# Altium integrated library TI Data Converters Analog to Digital Converter.IntLib: 2197 symbols (part 144 of 168)
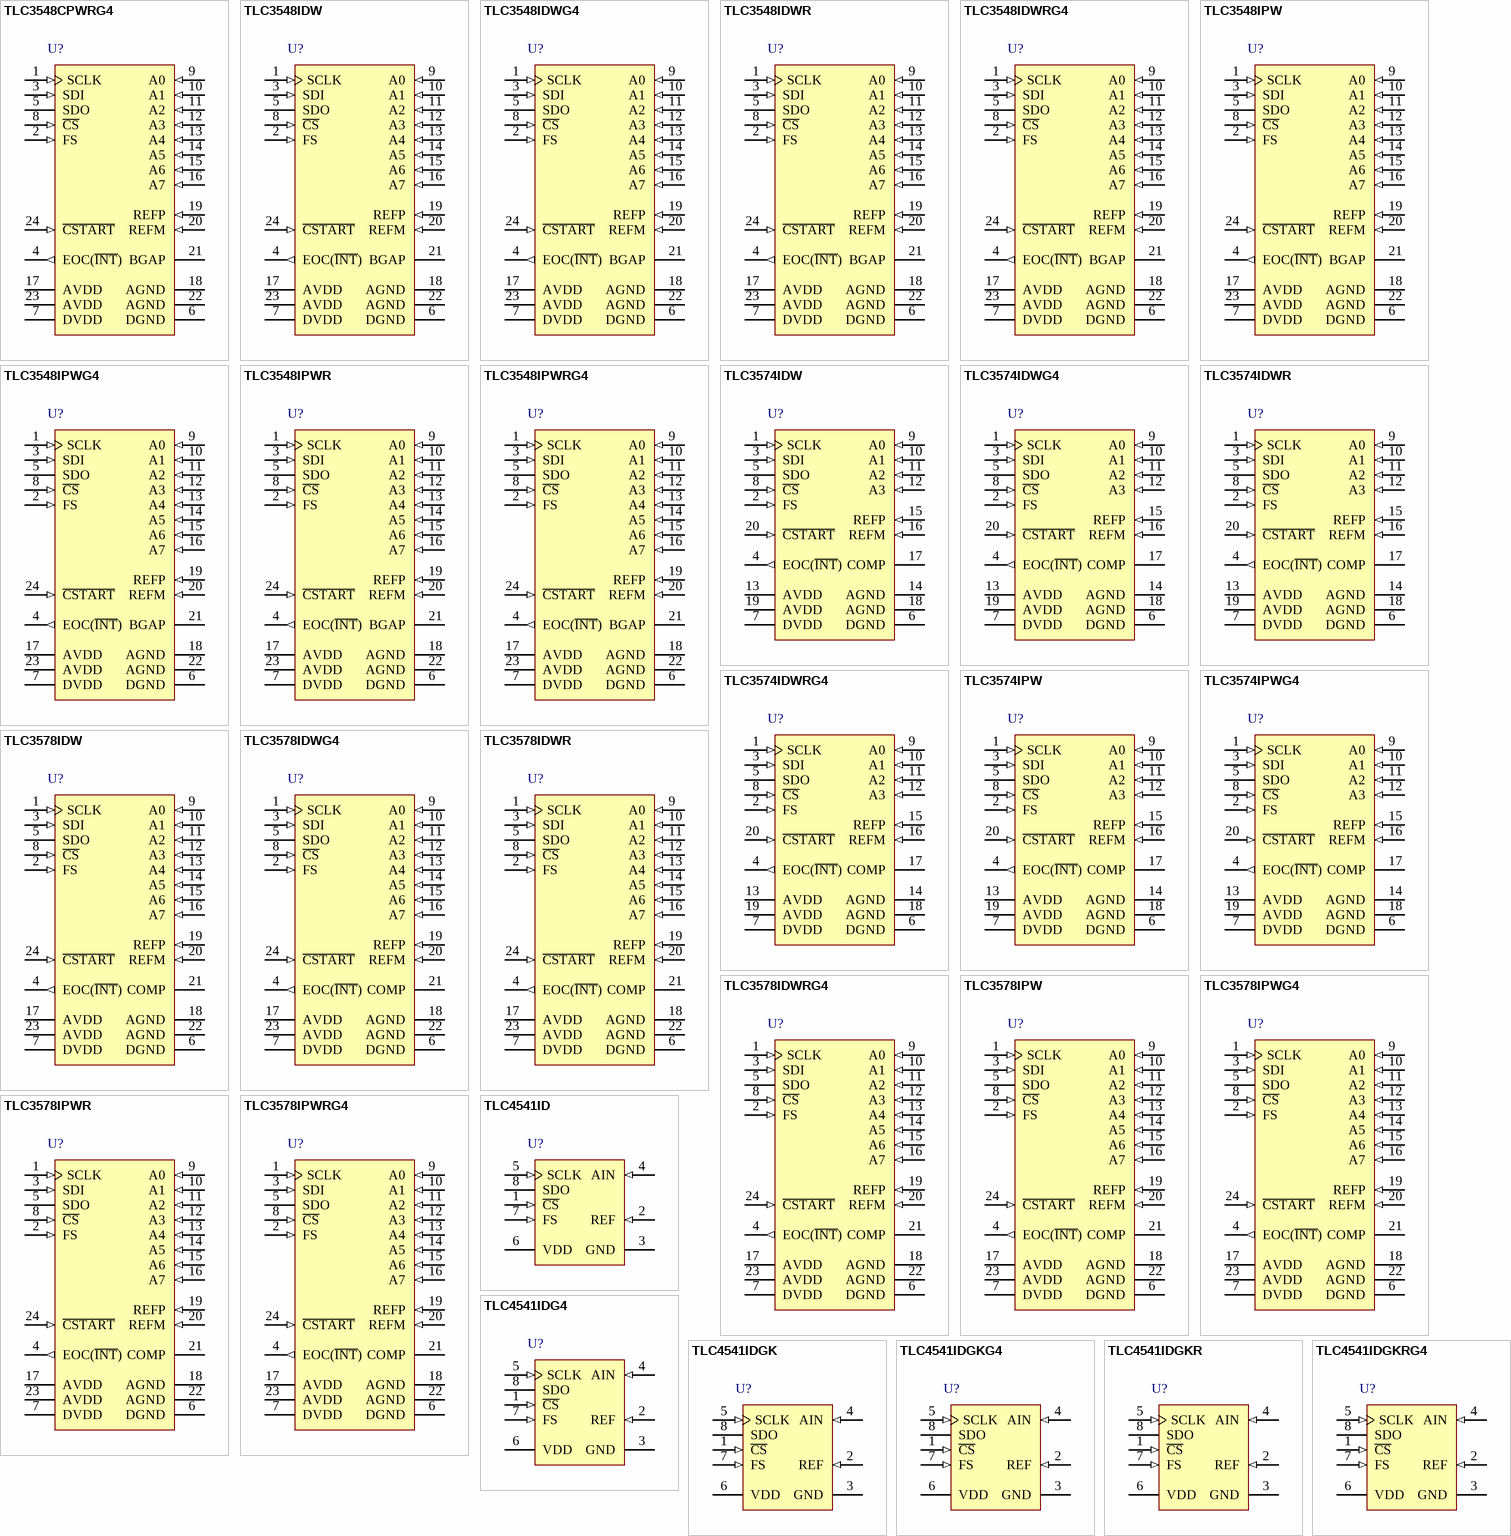
[diagram p269: symbols TLC3548CPWRG4 to TLC4541IDGKRG4]

## TLC3578IPWRG4
designator U?
Serial Out, Low Power with Built-In Conversion Clock and 8 x FIFO, 8 Channel, -40 to 85 degC, 24-pin SOP (PW24), Green (RoHS & no Sb/Br); Manufacturer: Texas Instruments; PartNumber: TLC3578IPWRG4; # Input Channels: 8; Analog Voltage AV/DD(Max)(V): 5.5; Analog Voltage AV/DD(Min)(V): 4.75; Architecture: SAR; Digital Supply(Min)(V): 2.7; ENOB(Bits): 12.8; INL(Max)(+/-LSB): 1.5; Interface: Serial SPI; Resolution(Bits): 14; Sample Rate (max)(SPS): 200k; SFDR(dB): 84; SINAD(dB): 79; SNR(dB): 80; SubFamily: Precision ADC (<=10MSPS); DatasheetVersion: SLAS262C; PackageVersion: 4040064-6/G, 02/2011; PackageReference: PW24; PackageDescription: 24-Pin Plastic Small Outline, Body 7.8 x 4.4 mm, Pitch 0.65 mm; Supplier 1: Digi-Key; Supplier Part Number 1: TLC0834IDR-ND; Supplier 2: Mouser; Supplier Part Number 2: 595-TLC0834IDR; Digital Supply(Max)(V): 5.5; Eco-Plan: Green (RoHS & no Sb/Br); Mounting Technology: Surface Mount; Code_JEDEC: MO-153; ComponentLink1Description: Manufacturer URL; ComponentLink1URL: http://www.ti.com/; ComponentLink2Description: Datasheet; ComponentLink2URL: http://www.ti.com/general/docs/lit/getliterature.tsp?genericPartNumber=TLC3578&fileType=pdf; ComponentLink3Description: Package Specification; ComponentLink3URL: http://www.ti.com/litv/pdf/mpds363
footprint TI-PW24_N (SOP, 24-Leads, Body 7.8x4.4mm, Pitch 0.65mm, IPC Medium Density)
footprint TI-PW24_L (SOP, 24-Leads, Body 7.8x4.4mm, Pitch 0.65mm, IPC High Density)
footprint TI-PW24_M (SOP, 24-Leads, Body 7.8x4.4mm, Pitch 0.65mm, IPC Low Density)
pins: 1 SCLK (in) "Serial clock input from the host processor to clock in the input from SDI and clock out the output via SDO. It can also be used as the conversion clock source when the external conversion clock is selected (see Table 2). (See Datasheet)", 2 FS (in) "Frame sync input from DSP. The rising edge of FS indicates the start of a serial data frame being transferred (coming into or being sent out of the device). If FS is low at the falling edge of C\S\, the rising edge of FS (See Datasheet)", 3 SDI (in) "Serial data input. The first 4 MSBs, ID[15:12], are decoded as one 4-bit command. All trailing bits, except for the WRITE CFR command, are filled with zeros. The WRITE CFR command requires additional 12-bit data. The MSB of (See Datasheet)", 4 EOC(~{INT}) (out) "End of conversion (EOC) or interrupt to host processor (I\N\T\) EOC: used in conversion mode 00 only. EOC goes from high to low at the end of the sampling and remains low until the conversion is complete and data is ready. (See Datasheet)", 5 SDO (hiz) "The 3-state serial output for the A/D conversion result. All data bits are shifted out through SDO. SDO is in the high-impedance state when C\S\ is high. SDO is released after a C\S\ falling edge. The output format is MSB (See Datasheet)", 6 DGND (power) "Digital ground return for the internal circuitry", 7 DVDD (power) "Digital supply voltage", 8 ~{CS} (in) "Chip select. When C\S\ is high, SDO is in high-impedance state, SDI is ignored, and SCLK is disabled to clock data, but works as conversion clock source if programmed. The falling edge of C\S\ input resets the internal 4-bit (See Datasheet)", 9 A0 (in) "Analog signal inputs. Analog input signals applied to these terminals are internally multiplexed. The driving source impedance should be less than or equal to 25 ohm for normal sampling. For larger source impedance, use the (See Datasheet)", 10 A1 (in) "Analog signal inputs. Analog input signals applied to these terminals are internally multiplexed. The driving source impedance should be less than or equal to 25 ohm for normal sampling. For larger source impedance, use the (See Datasheet)", 11 A2 (in) "Analog signal inputs. Analog input signals applied to these terminals are internally multiplexed. The driving source impedance should be less than or equal to 25 ohm for normal sampling. For larger source impedance, use the (See Datasheet)", 12 A3 (in) "Analog signal inputs. Analog input signals applied to these terminals are internally multiplexed. The driving source impedance should be less than or equal to 25 ohm for normal sampling. For larger source impedance, use the (See Datasheet)", 13 A4 (in) "Analog signal inputs. Analog input signals applied to these terminals are internally multiplexed. The driving source impedance should be less than or equal to 25 ohm for normal sampling. For larger source impedance, use the (See Datasheet)", 14 A5 (in) "Analog signal inputs. Analog input signals applied to these terminals are internally multiplexed. The driving source impedance should be less than or equal to 25 ohm for normal sampling. For larger source impedance, use the (See Datasheet)", 15 A6 (in) "Analog signal inputs. Analog input signals applied to these terminals are internally multiplexed. The driving source impedance should be less than or equal to 25 ohm for normal sampling. For larger source impedance, use the (See Datasheet)", 16 A7 (in) "Analog signal inputs. Analog input signals applied to these terminals are internally multiplexed. The driving source impedance should be less than or equal to 25 ohm for normal sampling. For larger source impedance, use the (See Datasheet)", 17 AVDD (power) "Analog supply voltage", 18 AGND (power) "Analog ground return for the internal circuitry. Unless otherwise noted, all analog voltage measurements are with respect to AGND.", 19 REFP (in) "External positive reference input. The range of maximum input voltage is determined by the difference between the voltage applied to this terminal and to the REFM terminal. Always install decoupling capacitors (10 uF in (See Datasheet)", 20 REFM (in) "External low reference input. Connect REFM to AGND.", 21 COMP "Internal compensation pin. Install compensation capacitors 0.1 uF between this pin and AGND.", 22 AGND (power) "Analog ground return for the internal circuitry. Unless otherwise noted, all analog voltage measurements are with respect to AGND.", 23 AVDD (power) "Analog supply voltage", 24 ~{CSTART} (in) "External sampling trigger signal, which initiates the sampling from a selected analog input channel when the device works in extended sampling mode (asynchronous sampling). A high-to-low transition starts the sampling of the (See Datasheet)"

## TLC4541ID
designator U?
16-Bit 200 kSPS ADC Serial Out, Auto Power Down, Single-Ended Input, -40 to 85 degC, 8-pin SOIC (D8), Green (RoHS & no Sb/Br); Manufacturer: Texas Instruments; PartNumber: TLC4541ID; # Input Channels: 1; Analog Voltage AV/DD(Max)(V): 5.5; Analog Voltage AV/DD(Min)(V): 4.5; Architecture: SAR; ENOB(Bits): 13.7; INL(Max)(+/-LSB): 2.5; Interface: Serial SPI; Resolution(Bits): 16; Sample Rate (max)(SPS): 200k; SFDR(dB): 95; SINAD(dB): 84.5; SNR(dB): 85; SubFamily: Precision ADC (<=10MSPS); DatasheetVersion: SLAS293; PackageVersion: 4040047-3/M, 06/2011; PackageReference: D8; PackageDescription: 8-Pin Plastic Small Outline, Body 4.9 x 3.9 mm, Pitch 1.27 mm; Supplier 1: Digi-Key; Supplier Part Number 1: TLC0834IDRG4-ND; Supplier 2: Mouser; Supplier Part Number 2: 595-TLC0834IDRG4; Digital Supply(Max)(V): 5.5; Digital Supply(Min)(V): 4.5; Eco-Plan: Green (RoHS & no Sb/Br); Mounting Technology: Surface Mount; Code_JEDEC: MS-012; ComponentLink1Description: Manufacturer URL; ComponentLink1URL: http://www.ti.com/; ComponentLink2Description: Datasheet; ComponentLink2URL: http://www.ti.com/general/docs/lit/getliterature.tsp?genericPartNumber=TLC4541&fileType=pdf; ComponentLink3Description: Package Specification; ComponentLink3URL: http://www.ti.com/litv/pdf/msoi002j
footprint TI-D8_N (SOIC, 8-Leads, Body 4.9x3.9mm, Pitch 1.27mm, IPC Medium Density)
footprint TI-D8_L (SOIC, 8-Leads, Body 4.9x3.9mm, Pitch 1.27mm, IPC High Density)
footprint TI-D8_M (SOIC, 8-Leads, Body 4.9x3.9mm, Pitch 1.27mm, IPC Low Density)
pins: 1 ~{CS} (in) "Chip select. A high-to-low transition on the C\S\ input removes SDO from a high-impedance state within a maximum delay time. If the TLC4541 is attached to a dedicated TMS320 DSP serial port using the FS input, C\S\ can be (See Datasheet)", 2 REF (in) "External voltage reference input", 3 GND (power) "Ground return for the internal circuitry. Unless otherwise noted, all voltage measurements are with respect to GND.", 4 AIN (in) "Analog input channel", 5 SCLK (in) "Serial clock. This terminal receives the serial SCLK from the host processor.", 6 VDD (power) "Positive supply voltage", 7 FS (in) "DSP frame sync input. Indication of a start of a serial data frame. A low-to-high transition removes SDO from the high-impedance state and the MSB is presented. Tie this pin to VDD if not used.", 8 SDO (hiz) "The 3-state serial data output for the A/D conversion result. SDO is kept in the high-impedance state when C\S\ is high. The output format is MSB first. Remaining data bits are presented on the rirsing edge of SCLK. When FS (See Datasheet)"

## TLC4541IDG4
designator U?
16-Bit 200 kSPS ADC Serial Out, Auto Power Down, Single-Ended Input, -40 to 85 degC, 8-pin SOIC (D8), Green (RoHS & no Sb/Br); Manufacturer: Texas Instruments; PartNumber: TLC4541IDG4; # Input Channels: 1; Analog Voltage AV/DD(Max)(V): 5.5; Analog Voltage AV/DD(Min)(V): 4.5; Architecture: SAR; ENOB(Bits): 13.7; INL(Max)(+/-LSB): 2.5; Interface: Serial SPI; Resolution(Bits): 16; Sample Rate (max)(SPS): 200k; SFDR(dB): 95; SINAD(dB): 84.5; SNR(dB): 85; SubFamily: Precision ADC (<=10MSPS); DatasheetVersion: SLAS293; PackageVersion: 4040047-3/M, 06/2011; PackageReference: D8; PackageDescription: 8-Pin Plastic Small Outline, Body 4.9 x 3.9 mm, Pitch 1.27 mm; Supplier 1: Digi-Key; Supplier Part Number 1: 296-2864-5-ND; Supplier 2: Mouser; Supplier Part Number 2: 595-TLC0834IN; Digital Supply(Max)(V): 5.5; Digital Supply(Min)(V): 4.5; Eco-Plan: Green (RoHS & no Sb/Br); Mounting Technology: Surface Mount; Code_JEDEC: MS-012; ComponentLink1Description: Manufacturer URL; ComponentLink1URL: http://www.ti.com/; ComponentLink2Description: Datasheet; ComponentLink2URL: http://www.ti.com/general/docs/lit/getliterature.tsp?genericPartNumber=TLC4541&fileType=pdf; ComponentLink3Description: Package Specification; ComponentLink3URL: http://www.ti.com/litv/pdf/msoi002j
footprint TI-D8_N (SOIC, 8-Leads, Body 4.9x3.9mm, Pitch 1.27mm, IPC Medium Density)
footprint TI-D8_L (SOIC, 8-Leads, Body 4.9x3.9mm, Pitch 1.27mm, IPC High Density)
footprint TI-D8_M (SOIC, 8-Leads, Body 4.9x3.9mm, Pitch 1.27mm, IPC Low Density)
pins: 1 ~{CS} (in) "Chip select. A high-to-low transition on the C\S\ input removes SDO from a high-impedance state within a maximum delay time. If the TLC4541 is attached to a dedicated TMS320 DSP serial port using the FS input, C\S\ can be (See Datasheet)", 2 REF (in) "External voltage reference input", 3 GND (power) "Ground return for the internal circuitry. Unless otherwise noted, all voltage measurements are with respect to GND.", 4 AIN (in) "Analog input channel", 5 SCLK (in) "Serial clock. This terminal receives the serial SCLK from the host processor.", 6 VDD (power) "Positive supply voltage", 7 FS (in) "DSP frame sync input. Indication of a start of a serial data frame. A low-to-high transition removes SDO from the high-impedance state and the MSB is presented. Tie this pin to VDD if not used.", 8 SDO (hiz) "The 3-state serial data output for the A/D conversion result. SDO is kept in the high-impedance state when C\S\ is high. The output format is MSB first. Remaining data bits are presented on the rirsing edge of SCLK. When FS (See Datasheet)"

## TLC4541IDGK
designator U?
16-Bit 200 kSPS ADC Serial Out, Auto Power Down, Single-Ended Input, -40 to 85 degC, 8-pin SOP (DGK8), Green (RoHS & no Sb/Br); Manufacturer: Texas Instruments; PartNumber: TLC4541IDGK; # Input Channels: 1; Analog Voltage AV/DD(Max)(V): 5.5; Analog Voltage AV/DD(Min)(V): 4.5; Architecture: SAR; INL(Max)(+/-LSB): 2.5; Interface: Serial SPI; Resolution(Bits): 16; Sample Rate (max)(SPS): 200k; SFDR(dB): 95; SINAD(dB): 84.5; SNR(dB): 85; SubFamily: Precision ADC (<=10MSPS); DatasheetVersion: SLAS293; PackageVersion: 4073329/E, 05/2006; PackageReference: DGK8; PackageDescription: 8-Pin Thin Small Outline, Body 3 x 3 mm, Pitch 0.65 mm; Supplier 1: Digi-Key; Supplier Part Number 1: TLC0834INE4-ND; Supplier 2: Mouser; Supplier Part Number 2: 595-TLC0834INE4; Digital Supply(Max)(V): 5.5; Digital Supply(Min)(V): 4.5; Eco-Plan: Green (RoHS & no Sb/Br); Mounting Technology: Surface Mount; Code_JEDEC: MO-187; ComponentLink1Description: Manufacturer URL; ComponentLink1URL: http://www.ti.com/; ComponentLink2Description: Datasheet; ComponentLink2URL: http://www.ti.com/general/docs/lit/getliterature.tsp?genericPartNumber=TLC4541&fileType=pdf; ComponentLink3Description: Package Specification; ComponentLink3URL: http://www.ti.com/litv/pdf/mpds028d
footprint TI-DGK8_N (SOP, 8-Leads, Body 3x3mm, Pitch 0.65mm, IPC Medium Density)
footprint TI-DGK8_L (SOP, 8-Leads, Body 3x3mm, Pitch 0.65mm, IPC High Density)
footprint TI-DGK8_M (SOP, 8-Leads, Body 3x3mm, Pitch 0.65mm, IPC Low Density)
pins: 1 ~{CS} (in) "Chip select. A high-to-low transition on the C\S\ input removes SDO from a high-impedance state within a maximum delay time. If the TLC4541 is attached to a dedicated TMS320 DSP serial port using the FS input, C\S\ can be (See Datasheet)", 2 REF (in) "External voltage reference input", 3 GND (power) "Ground return for the internal circuitry. Unless otherwise noted, all voltage measurements are with respect to GND.", 4 AIN (in) "Analog input channel", 5 SCLK (in) "Serial clock. This terminal receives the serial SCLK from the host processor.", 6 VDD (power) "Positive supply voltage", 7 FS (in) "DSP frame sync input. Indication of a start of a serial data frame. A low-to-high transition removes SDO from the high-impedance state and the MSB is presented. Tie this pin to VDD if not used.", 8 SDO (hiz) "The 3-state serial data output for the A/D conversion result. SDO is kept in the high-impedance state when C\S\ is high. The output format is MSB first. Remaining data bits are presented on the rirsing edge of SCLK. When FS (See Datasheet)"

## TLC4541IDGKG4
designator U?
16-Bit 200 kSPS ADC Serial Out, Auto Power Down, Single-Ended Input, -40 to 85 degC, 8-pin SOP (DGK8), Green (RoHS & no Sb/Br); Manufacturer: Texas Instruments; PartNumber: TLC4541IDGKG4; # Input Channels: 1; Analog Voltage AV/DD(Max)(V): 5.5; Analog Voltage AV/DD(Min)(V): 4.5; Architecture: SAR; INL(Max)(+/-LSB): 2.5; Interface: Serial SPI; Resolution(Bits): 16; Sample Rate (max)(SPS): 200k; SFDR(dB): 95; SINAD(dB): 84.5; SNR(dB): 85; SubFamily: Precision ADC (<=10MSPS); DatasheetVersion: SLAS293; PackageVersion: 4073329/E, 05/2006; PackageReference: DGK8; PackageDescription: 8-Pin Thin Small Outline, Body 3 x 3 mm, Pitch 0.65 mm; Supplier 1: Digi-Key; Supplier Part Number 1: 296-29838-5-ND; Supplier 2: Newark; Supplier Part Number 2: 74R5945; Supplier 3: Mouser; Supplier Part Number 3: 595-ADS1254WDBQEP; Digital Supply(Max)(V): 5.5; Digital Supply(Min)(V): 4.5; Eco-Plan: Green (RoHS & no Sb/Br); Mounting Technology: Surface Mount; Code_JEDEC: MO-187; ComponentLink1Description: Manufacturer URL; ComponentLink1URL: http://www.ti.com/; ComponentLink2Description: Datasheet; ComponentLink2URL: http://www.ti.com/general/docs/lit/getliterature.tsp?genericPartNumber=TLC4541&fileType=pdf; ComponentLink3Description: Package Specification; ComponentLink3URL: http://www.ti.com/litv/pdf/mpds028d
footprint TI-DGK8_N (SOP, 8-Leads, Body 3x3mm, Pitch 0.65mm, IPC Medium Density)
footprint TI-DGK8_L (SOP, 8-Leads, Body 3x3mm, Pitch 0.65mm, IPC High Density)
footprint TI-DGK8_M (SOP, 8-Leads, Body 3x3mm, Pitch 0.65mm, IPC Low Density)
pins: 1 ~{CS} (in) "Chip select. A high-to-low transition on the C\S\ input removes SDO from a high-impedance state within a maximum delay time. If the TLC4541 is attached to a dedicated TMS320 DSP serial port using the FS input, C\S\ can be (See Datasheet)", 2 REF (in) "External voltage reference input", 3 GND (power) "Ground return for the internal circuitry. Unless otherwise noted, all voltage measurements are with respect to GND.", 4 AIN (in) "Analog input channel", 5 SCLK (in) "Serial clock. This terminal receives the serial SCLK from the host processor.", 6 VDD (power) "Positive supply voltage", 7 FS (in) "DSP frame sync input. Indication of a start of a serial data frame. A low-to-high transition removes SDO from the high-impedance state and the MSB is presented. Tie this pin to VDD if not used.", 8 SDO (hiz) "The 3-state serial data output for the A/D conversion result. SDO is kept in the high-impedance state when C\S\ is high. The output format is MSB first. Remaining data bits are presented on the rirsing edge of SCLK. When FS (See Datasheet)"

## TLC4541IDGKR
designator U?
16-Bit 200 kSPS ADC Serial Out, Auto Power Down, Single-Ended Input, -40 to 85 degC, 8-pin SOP (DGK8), Green (RoHS & no Sb/Br); Manufacturer: Texas Instruments; PartNumber: TLC4541IDGKR; # Input Channels: 1; Analog Voltage AV/DD(Max)(V): 5.5; Analog Voltage AV/DD(Min)(V): 4.5; Architecture: SAR; INL(Max)(+/-LSB): 2.5; Interface: Serial SPI; Resolution(Bits): 16; Sample Rate (max)(SPS): 200k; SFDR(dB): 95; SINAD(dB): 84.5; SNR(dB): 85; SubFamily: Precision ADC (<=10MSPS); DatasheetVersion: SLAS293; PackageVersion: 4073329/E, 05/2006; PackageReference: DGK8; PackageDescription: 8-Pin Thin Small Outline, Body 3 x 3 mm, Pitch 0.65 mm; Supplier 1: Digi-Key; Supplier Part Number 1: ADS1282HPW-ND; Supplier 2: Newark; Supplier Part Number 2: 61T5804; Supplier 3: Mouser; Supplier Part Number 3: 595-ADS1282HPW; Digital Supply(Max)(V): 5.5; Digital Supply(Min)(V): 4.5; Eco-Plan: Green (RoHS & no Sb/Br); Mounting Technology: Surface Mount; Code_JEDEC: MO-187; ComponentLink1Description: Manufacturer URL; ComponentLink1URL: http://www.ti.com/; ComponentLink2Description: Datasheet; ComponentLink2URL: http://www.ti.com/general/docs/lit/getliterature.tsp?genericPartNumber=TLC4541&fileType=pdf; ComponentLink3Description: Package Specification; ComponentLink3URL: http://www.ti.com/litv/pdf/mpds028d
footprint TI-DGK8_N (SOP, 8-Leads, Body 3x3mm, Pitch 0.65mm, IPC Medium Density)
footprint TI-DGK8_L (SOP, 8-Leads, Body 3x3mm, Pitch 0.65mm, IPC High Density)
footprint TI-DGK8_M (SOP, 8-Leads, Body 3x3mm, Pitch 0.65mm, IPC Low Density)
pins: 1 ~{CS} (in) "Chip select. A high-to-low transition on the C\S\ input removes SDO from a high-impedance state within a maximum delay time. If the TLC4541 is attached to a dedicated TMS320 DSP serial port using the FS input, C\S\ can be (See Datasheet)", 2 REF (in) "External voltage reference input", 3 GND (power) "Ground return for the internal circuitry. Unless otherwise noted, all voltage measurements are with respect to GND.", 4 AIN (in) "Analog input channel", 5 SCLK (in) "Serial clock. This terminal receives the serial SCLK from the host processor.", 6 VDD (power) "Positive supply voltage", 7 FS (in) "DSP frame sync input. Indication of a start of a serial data frame. A low-to-high transition removes SDO from the high-impedance state and the MSB is presented. Tie this pin to VDD if not used.", 8 SDO (hiz) "The 3-state serial data output for the A/D conversion result. SDO is kept in the high-impedance state when C\S\ is high. The output format is MSB first. Remaining data bits are presented on the rirsing edge of SCLK. When FS (See Datasheet)"

## TLC4541IDGKRG4
designator U?
16-Bit 200 kSPS ADC Serial Out, Auto Power Down, Single-Ended Input, -40 to 85 degC, 8-pin SOP (DGK8), Green (RoHS & no Sb/Br); Manufacturer: Texas Instruments; PartNumber: TLC4541IDGKRG4; # Input Channels: 1; Analog Voltage AV/DD(Max)(V): 5.5; Analog Voltage AV/DD(Min)(V): 4.5; Architecture: SAR; INL(Max)(+/-LSB): 2.5; Interface: Serial SPI; Resolution(Bits): 16; Sample Rate (max)(SPS): 200k; SFDR(dB): 95; SINAD(dB): 84.5; SNR(dB): 85; SubFamily: Precision ADC (<=10MSPS); DatasheetVersion: SLAS293; PackageVersion: 4073329/E, 05/2006; PackageReference: DGK8; PackageDescription: 8-Pin Thin Small Outline, Body 3 x 3 mm, Pitch 0.65 mm; Supplier 1: Digi-Key; Supplier Part Number 1: 296-36076-5-ND; Supplier 2: Newark; Supplier Part Number 2: 27T6160; Supplier 3: Mouser; Supplier Part Number 3: 595-ADS1282SJDJ; Digital Supply(Max)(V): 5.5; Digital Supply(Min)(V): 4.5; Eco-Plan: Green (RoHS & no Sb/Br); Mounting Technology: Surface Mount; Code_JEDEC: MO-187; ComponentLink1Description: Manufacturer URL; ComponentLink1URL: http://www.ti.com/; ComponentLink2Description: Datasheet; ComponentLink2URL: http://www.ti.com/general/docs/lit/getliterature.tsp?genericPartNumber=TLC4541&fileType=pdf; ComponentLink3Description: Package Specification; ComponentLink3URL: http://www.ti.com/litv/pdf/mpds028d
footprint TI-DGK8_N (SOP, 8-Leads, Body 3x3mm, Pitch 0.65mm, IPC Medium Density)
footprint TI-DGK8_L (SOP, 8-Leads, Body 3x3mm, Pitch 0.65mm, IPC High Density)
footprint TI-DGK8_M (SOP, 8-Leads, Body 3x3mm, Pitch 0.65mm, IPC Low Density)
pins: 1 ~{CS} (in) "Chip select. A high-to-low transition on the C\S\ input removes SDO from a high-impedance state within a maximum delay time. If the TLC4541 is attached to a dedicated TMS320 DSP serial port using the FS input, C\S\ can be (See Datasheet)", 2 REF (in) "External voltage reference input", 3 GND (power) "Ground return for the internal circuitry. Unless otherwise noted, all voltage measurements are with respect to GND.", 4 AIN (in) "Analog input channel", 5 SCLK (in) "Serial clock. This terminal receives the serial SCLK from the host processor.", 6 VDD (power) "Positive supply voltage", 7 FS (in) "DSP frame sync input. Indication of a start of a serial data frame. A low-to-high transition removes SDO from the high-impedance state and the MSB is presented. Tie this pin to VDD if not used.", 8 SDO (hiz) "The 3-state serial data output for the A/D conversion result. SDO is kept in the high-impedance state when C\S\ is high. The output format is MSB first. Remaining data bits are presented on the rirsing edge of SCLK. When FS (See Datasheet)"

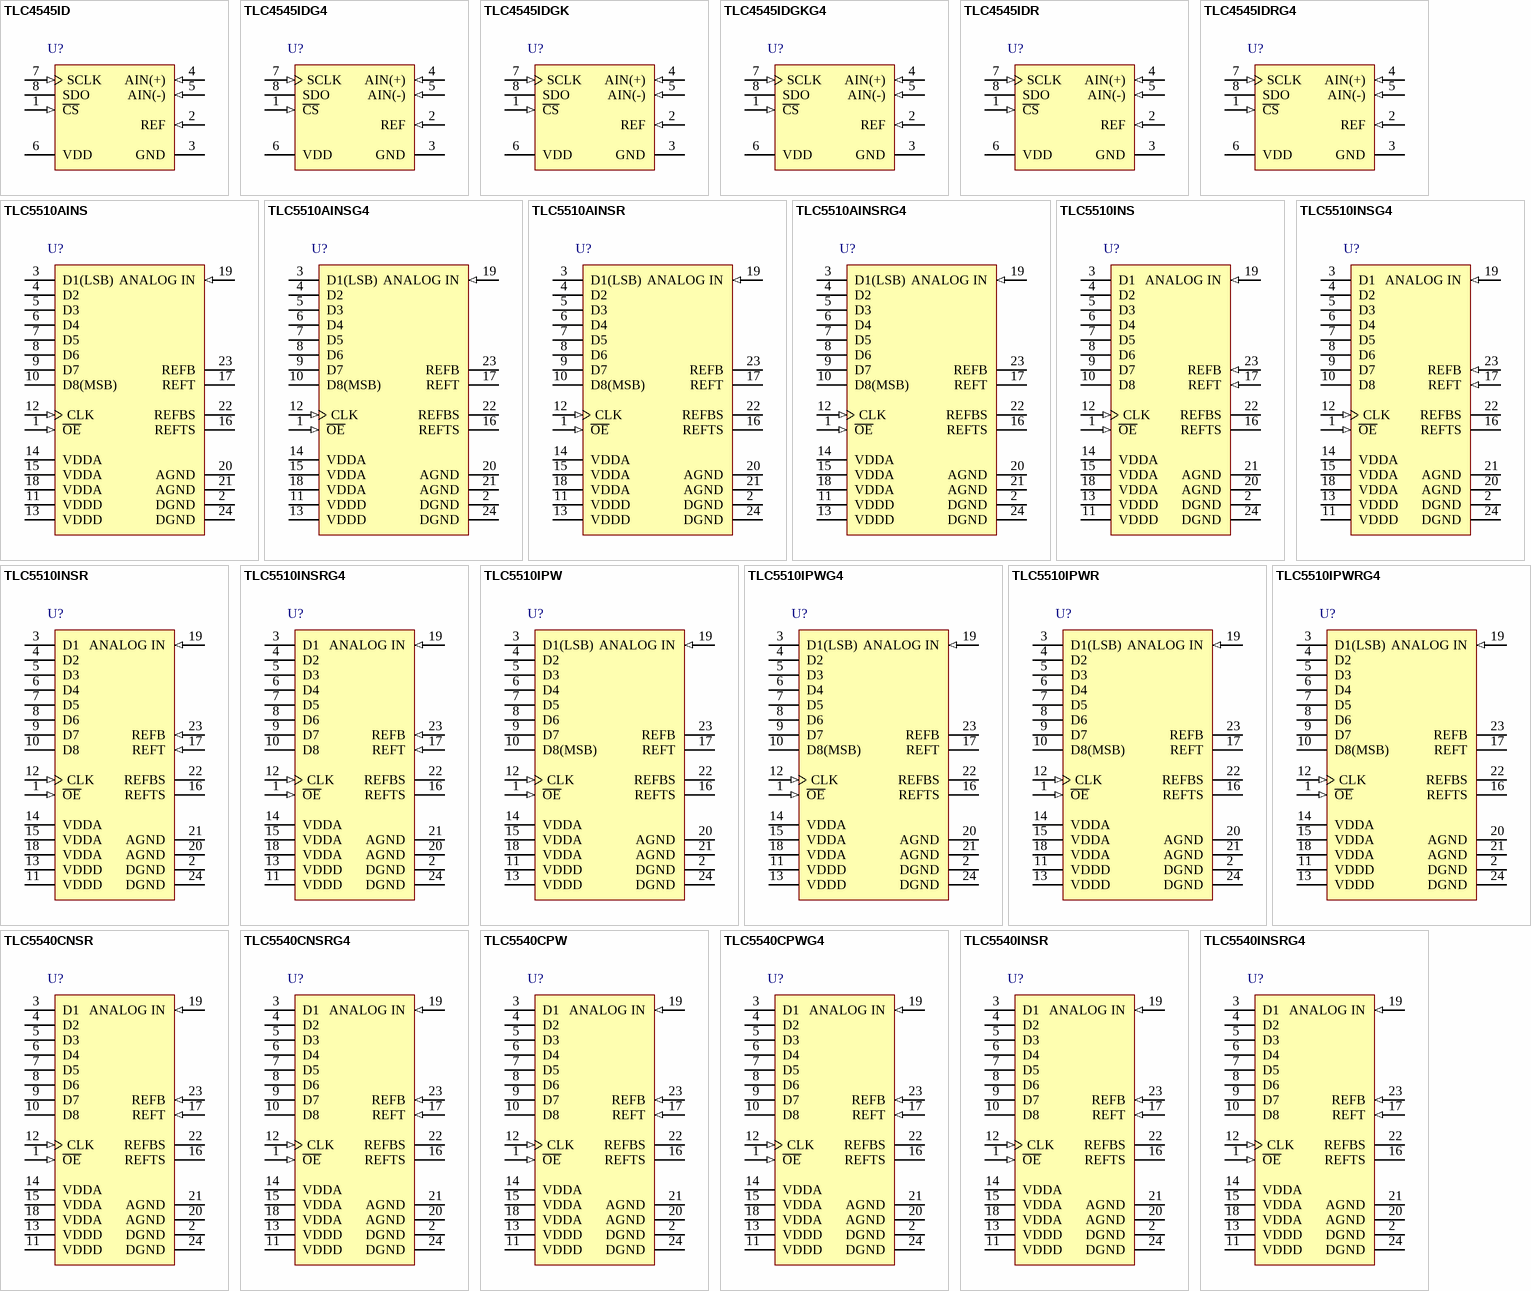
[diagram p114: symbols TLC4545ID to TLC5540INSRG4]

## TLC4545ID
designator U?
16-Bit 200 kSPS ADC Serial Out, Auto Power Down, Pseudo Differential Input, -40 to 85 degC, 8-pin SOIC (D8), Green (RoHS & no Sb/Br); Manufacturer: Texas Instruments; PartNumber: TLC4545ID; # Input Channels: 1; Analog Voltage AV/DD(Max)(V): 5.5; Analog Voltage AV/DD(Min)(V): 4.5; Architecture: SAR; ENOB(Bits): 13.7; INL(Max)(+/-LSB): 2.5; Interface: Serial SPI; Resolution(Bits): 16; Sample Rate (max)(SPS): 200k; SFDR(dB): 95; SINAD(dB): 84.5; SNR(dB): 85; SubFamily: Precision ADC (<=10MSPS); DatasheetVersion: SLAS293; PackageVersion: 4040047-3/M, 06/2011; PackageReference: D8; PackageDescription: 8-Pin Plastic Small Outline, Body 4.9 x 3.9 mm, Pitch 1.27 mm; Supplier 1: Digi-Key; Supplier Part Number 1: ADS1015QDGSRQ1-ND; Supplier 2: Newark; Supplier Part Number 2: 99R9767; Supplier 3: Mouser; Supplier Part Number 3: 595-ADS1015QDGSRQ1; Digital Supply(Max)(V): 5.5; Digital Supply(Min)(V): 4.5; Eco-Plan: Green (RoHS & no Sb/Br); Mounting Technology: Surface Mount; Code_JEDEC: MS-012; ComponentLink1Description: Manufacturer URL; ComponentLink1URL: http://www.ti.com/; ComponentLink2Description: Datasheet; ComponentLink2URL: http://www.ti.com/general/docs/lit/getliterature.tsp?genericPartNumber=TLC4545&fileType=pdf; ComponentLink3Description: Package Specification; ComponentLink3URL: http://www.ti.com/litv/pdf/msoi002j
footprint TI-D8_N (SOIC, 8-Leads, Body 4.9x3.9mm, Pitch 1.27mm, IPC Medium Density)
footprint TI-D8_L (SOIC, 8-Leads, Body 4.9x3.9mm, Pitch 1.27mm, IPC High Density)
footprint TI-D8_M (SOIC, 8-Leads, Body 4.9x3.9mm, Pitch 1.27mm, IPC Low Density)
pins: 1 ~{CS} (in) "Chip select. A high-to-low transition on C\S\ removes SDO from the high-impedance state within a maximum delay time. The C\S\ input can be connected to a DSP frame sync (FS) output when a dedicated TMS320 DSP serial port is (See Datasheet)", 2 REF (in) "External voltage reference input", 3 GND (power) "Ground return for the internal circuitry. Unless otherwise noted, all voltage measurements are with respect to GND.", 4 AIN(+) (in) "Positive analog input", 5 AIN(-) (in) "Inverted analog input", 6 VDD (power) "Positive supply voltage", 7 SCLK (in) "Serial clock. This terminal receives the serial SCLK from the host processor.", 8 SDO (hiz) "The 3-state serial data output for the A/D conversion result. SDO is kept in the high-impedance state when C\S\ is high and presents output data after the C\S\ falling edge until the LSB is presented. The output format is (See Datasheet)"

## TLC4545IDG4
designator U?
16-Bit 200 kSPS ADC Serial Out, Auto Power Down, Pseudo Differential Input, -40 to 85 degC, 8-pin SOIC (D8), Green (RoHS & no Sb/Br); Manufacturer: Texas Instruments; PartNumber: TLC4545IDG4; # Input Channels: 1; Analog Voltage AV/DD(Max)(V): 5.5; Analog Voltage AV/DD(Min)(V): 4.5; Architecture: SAR; ENOB(Bits): 13.7; INL(Max)(+/-LSB): 2.5; Interface: Serial SPI; Resolution(Bits): 16; Sample Rate (max)(SPS): 200k; SFDR(dB): 95; SINAD(dB): 84.5; SNR(dB): 85; SubFamily: Precision ADC (<=10MSPS); DatasheetVersion: SLAS293; PackageVersion: 4040047-3/M, 06/2011; PackageReference: D8; PackageDescription: 8-Pin Plastic Small Outline, Body 4.9 x 3.9 mm, Pitch 1.27 mm; Supplier 1: Digi-Key; Supplier Part Number 1: 296-2185-5-ND; Supplier 2: Farnell; Supplier Part Number 2: 1287650; Supplier 3: Newark; Supplier Part Number 3: 26M4170; Supplier 4: Newark; Supplier Part Number 4: 76C7484; Supplier 5: Mouser; Supplier Part Number 5: 595-TLC7135CDW; Digital Supply(Max)(V): 5.5; Digital Supply(Min)(V): 4.5; Eco-Plan: Green (RoHS & no Sb/Br); Mounting Technology: Surface Mount; Code_JEDEC: MS-012; ComponentLink1Description: Manufacturer URL; ComponentLink1URL: http://www.ti.com/; ComponentLink2Description: Datasheet; ComponentLink2URL: http://www.ti.com/general/docs/lit/getliterature.tsp?genericPartNumber=TLC4545&fileType=pdf; ComponentLink3Description: Package Specification; ComponentLink3URL: http://www.ti.com/litv/pdf/msoi002j
footprint TI-D8_N (SOIC, 8-Leads, Body 4.9x3.9mm, Pitch 1.27mm, IPC Medium Density)
footprint TI-D8_L (SOIC, 8-Leads, Body 4.9x3.9mm, Pitch 1.27mm, IPC High Density)
footprint TI-D8_M (SOIC, 8-Leads, Body 4.9x3.9mm, Pitch 1.27mm, IPC Low Density)
pins: 1 ~{CS} (in) "Chip select. A high-to-low transition on C\S\ removes SDO from the high-impedance state within a maximum delay time. The C\S\ input can be connected to a DSP frame sync (FS) output when a dedicated TMS320 DSP serial port is (See Datasheet)", 2 REF (in) "External voltage reference input", 3 GND (power) "Ground return for the internal circuitry. Unless otherwise noted, all voltage measurements are with respect to GND.", 4 AIN(+) (in) "Positive analog input", 5 AIN(-) (in) "Inverted analog input", 6 VDD (power) "Positive supply voltage", 7 SCLK (in) "Serial clock. This terminal receives the serial SCLK from the host processor.", 8 SDO (hiz) "The 3-state serial data output for the A/D conversion result. SDO is kept in the high-impedance state when C\S\ is high and presents output data after the C\S\ falling edge until the LSB is presented. The output format is (See Datasheet)"

## TLC4545IDGK
designator U?
16-Bit 200 kSPS ADC Serial Out, Auto Power Down, Pseudo Differential Input, -40 to 85 degC, 8-pin SOP (DGK8), Green (RoHS & no Sb/Br); Manufacturer: Texas Instruments; PartNumber: TLC4545IDGK; # Input Channels: 1; Analog Voltage AV/DD(Max)(V): 5.5; Analog Voltage AV/DD(Min)(V): 4.5; Architecture: SAR; INL(Max)(+/-LSB): 2.5; Interface: Serial SPI; Resolution(Bits): 16; Sample Rate (max)(SPS): 200k; SFDR(dB): 95; SINAD(dB): 84.5; SNR(dB): 85; SubFamily: Precision ADC (<=10MSPS); DatasheetVersion: SLAS293; PackageVersion: 4073329/E, 05/2006; PackageReference: DGK8; PackageDescription: 8-Pin Thin Small Outline, Body 3 x 3 mm, Pitch 0.65 mm; Supplier 1: Digi-Key; Supplier Part Number 1: TLC7135CDWG4-ND; Supplier 2: Newark; Supplier Part Number 2: 58K6747; Supplier 3: Mouser; Supplier Part Number 3: 595-TLC7135CDWG4; Digital Supply(Max)(V): 5.5; Digital Supply(Min)(V): 4.5; Eco-Plan: Green (RoHS & no Sb/Br); Mounting Technology: Surface Mount; Code_JEDEC: MO-187; ComponentLink1Description: Manufacturer URL; ComponentLink1URL: http://www.ti.com/; ComponentLink2Description: Datasheet; ComponentLink2URL: http://www.ti.com/general/docs/lit/getliterature.tsp?genericPartNumber=TLC4545&fileType=pdf; ComponentLink3Description: Package Specification; ComponentLink3URL: http://www.ti.com/litv/pdf/mpds028d
footprint TI-DGK8_N (SOP, 8-Leads, Body 3x3mm, Pitch 0.65mm, IPC Medium Density)
footprint TI-DGK8_L (SOP, 8-Leads, Body 3x3mm, Pitch 0.65mm, IPC High Density)
footprint TI-DGK8_M (SOP, 8-Leads, Body 3x3mm, Pitch 0.65mm, IPC Low Density)
pins: 1 ~{CS} (in) "Chip select. A high-to-low transition on C\S\ removes SDO from the high-impedance state within a maximum delay time. The C\S\ input can be connected to a DSP frame sync (FS) output when a dedicated TMS320 DSP serial port is (See Datasheet)", 2 REF (in) "External voltage reference input", 3 GND (power) "Ground return for the internal circuitry. Unless otherwise noted, all voltage measurements are with respect to GND.", 4 AIN(+) (in) "Positive analog input", 5 AIN(-) (in) "Inverted analog input", 6 VDD (power) "Positive supply voltage", 7 SCLK (in) "Serial clock. This terminal receives the serial SCLK from the host processor.", 8 SDO (hiz) "The 3-state serial data output for the A/D conversion result. SDO is kept in the high-impedance state when C\S\ is high and presents output data after the C\S\ falling edge until the LSB is presented. The output format is (See Datasheet)"

## TLC4545IDGKG4
designator U?
16-Bit 200 kSPS ADC Serial Out, Auto Power Down, Pseudo Differential Input, -40 to 85 degC, 8-pin SOP (DGK8), Green (RoHS & no Sb/Br); Manufacturer: Texas Instruments; PartNumber: TLC4545IDGKG4; # Input Channels: 1; Analog Voltage AV/DD(Max)(V): 5.5; Analog Voltage AV/DD(Min)(V): 4.5; Architecture: SAR; INL(Max)(+/-LSB): 2.5; Interface: Serial SPI; Resolution(Bits): 16; Sample Rate (max)(SPS): 200k; SFDR(dB): 95; SINAD(dB): 84.5; SNR(dB): 85; SubFamily: Precision ADC (<=10MSPS); DatasheetVersion: SLAS293; PackageVersion: 4073329/E, 05/2006; PackageReference: DGK8; PackageDescription: 8-Pin Thin Small Outline, Body 3 x 3 mm, Pitch 0.65 mm; Supplier 1: Digi-Key; Supplier Part Number 1: 296-26761-2-ND; Supplier 2: Digi-Key; Supplier Part Number 2: 296-26761-1-ND; Supplier 3: Digi-Key; Supplier Part Number 3: 296-26761-6-ND; Supplier 4: Newark; Supplier Part Number 4: 76C7485; Supplier 5: Mouser; Supplier Part Number 5: 595-TLC7135CDWR; Digital Supply(Max)(V): 5.5; Digital Supply(Min)(V): 4.5; Eco-Plan: Green (RoHS & no Sb/Br); Mounting Technology: Surface Mount; Code_JEDEC: MO-187; ComponentLink1Description: Manufacturer URL; ComponentLink1URL: http://www.ti.com/; ComponentLink2Description: Datasheet; ComponentLink2URL: http://www.ti.com/general/docs/lit/getliterature.tsp?genericPartNumber=TLC4545&fileType=pdf; ComponentLink3Description: Package Specification; ComponentLink3URL: http://www.ti.com/litv/pdf/mpds028d
footprint TI-DGK8_N (SOP, 8-Leads, Body 3x3mm, Pitch 0.65mm, IPC Medium Density)
footprint TI-DGK8_L (SOP, 8-Leads, Body 3x3mm, Pitch 0.65mm, IPC High Density)
footprint TI-DGK8_M (SOP, 8-Leads, Body 3x3mm, Pitch 0.65mm, IPC Low Density)
pins: 1 ~{CS} (in) "Chip select. A high-to-low transition on C\S\ removes SDO from the high-impedance state within a maximum delay time. The C\S\ input can be connected to a DSP frame sync (FS) output when a dedicated TMS320 DSP serial port is (See Datasheet)", 2 REF (in) "External voltage reference input", 3 GND (power) "Ground return for the internal circuitry. Unless otherwise noted, all voltage measurements are with respect to GND.", 4 AIN(+) (in) "Positive analog input", 5 AIN(-) (in) "Inverted analog input", 6 VDD (power) "Positive supply voltage", 7 SCLK (in) "Serial clock. This terminal receives the serial SCLK from the host processor.", 8 SDO (hiz) "The 3-state serial data output for the A/D conversion result. SDO is kept in the high-impedance state when C\S\ is high and presents output data after the C\S\ falling edge until the LSB is presented. The output format is (See Datasheet)"

## TLC4545IDR
designator U?
16-Bit 200 kSPS ADC Serial Out, Auto Power Down, Pseudo Differential Input, -40 to 85 degC, 8-pin SOIC (D8), Green (RoHS & no Sb/Br); Manufacturer: Texas Instruments; PartNumber: TLC4545IDR; # Input Channels: 1; Analog Voltage AV/DD(Max)(V): 5.5; Analog Voltage AV/DD(Min)(V): 4.5; Architecture: SAR; ENOB(Bits): 13.7; INL(Max)(+/-LSB): 2.5; Interface: Serial SPI; Resolution(Bits): 16; Sample Rate (max)(SPS): 200k; SFDR(dB): 95; SINAD(dB): 84.5; SNR(dB): 85; SubFamily: Precision ADC (<=10MSPS); DatasheetVersion: SLAS293; PackageVersion: 4040047-3/M, 06/2011; PackageReference: D8; PackageDescription: 8-Pin Plastic Small Outline, Body 4.9 x 3.9 mm, Pitch 1.27 mm; Supplier 1: Digi-Key; Supplier Part Number 1: TLC7135CDWRG4-ND; Supplier 2: Mouser; Supplier Part Number 2: 595-TLC7135CDWRG4; Digital Supply(Max)(V): 5.5; Digital Supply(Min)(V): 4.5; Eco-Plan: Green (RoHS & no Sb/Br); Mounting Technology: Surface Mount; Code_JEDEC: MS-012; ComponentLink1Description: Manufacturer URL; ComponentLink1URL: http://www.ti.com/; ComponentLink2Description: Datasheet; ComponentLink2URL: http://www.ti.com/general/docs/lit/getliterature.tsp?genericPartNumber=TLC4545&fileType=pdf; ComponentLink3Description: Package Specification; ComponentLink3URL: http://www.ti.com/litv/pdf/msoi002j
footprint TI-D8_N (SOIC, 8-Leads, Body 4.9x3.9mm, Pitch 1.27mm, IPC Medium Density)
footprint TI-D8_L (SOIC, 8-Leads, Body 4.9x3.9mm, Pitch 1.27mm, IPC High Density)
footprint TI-D8_M (SOIC, 8-Leads, Body 4.9x3.9mm, Pitch 1.27mm, IPC Low Density)
pins: 1 ~{CS} (in) "Chip select. A high-to-low transition on C\S\ removes SDO from the high-impedance state within a maximum delay time. The C\S\ input can be connected to a DSP frame sync (FS) output when a dedicated TMS320 DSP serial port is (See Datasheet)", 2 REF (in) "External voltage reference input", 3 GND (power) "Ground return for the internal circuitry. Unless otherwise noted, all voltage measurements are with respect to GND.", 4 AIN(+) (in) "Positive analog input", 5 AIN(-) (in) "Inverted analog input", 6 VDD (power) "Positive supply voltage", 7 SCLK (in) "Serial clock. This terminal receives the serial SCLK from the host processor.", 8 SDO (hiz) "The 3-state serial data output for the A/D conversion result. SDO is kept in the high-impedance state when C\S\ is high and presents output data after the C\S\ falling edge until the LSB is presented. The output format is (See Datasheet)"

## TLC4545IDRG4
designator U?
16-Bit 200 kSPS ADC Serial Out, Auto Power Down, Pseudo Differential Input, -40 to 85 degC, 8-pin SOIC (D8), Green (RoHS & no Sb/Br); Manufacturer: Texas Instruments; PartNumber: TLC4545IDRG4; # Input Channels: 1; Analog Voltage AV/DD(Max)(V): 5.5; Analog Voltage AV/DD(Min)(V): 4.5; Architecture: SAR; ENOB(Bits): 13.7; INL(Max)(+/-LSB): 2.5; Interface: Serial SPI; Resolution(Bits): 16; Sample Rate (max)(SPS): 200k; SFDR(dB): 95; SINAD(dB): 84.5; SNR(dB): 85; SubFamily: Precision ADC (<=10MSPS); DatasheetVersion: SLAS293; PackageVersion: 4040047-3/M, 06/2011; PackageReference: D8; PackageDescription: 8-Pin Plastic Small Outline, Body 4.9 x 3.9 mm, Pitch 1.27 mm; Supplier 1: Digi-Key; Supplier Part Number 1: 296-10350-5-ND; Supplier 2: Farnell; Supplier Part Number 2: 1459380; Supplier 3: Newark; Supplier Part Number 3: 14P7540; Supplier 4: Mouser; Supplier Part Number 4: 595-TLC7135CN; Digital Supply(Max)(V): 5.5; Digital Supply(Min)(V): 4.5; Eco-Plan: Green (RoHS & no Sb/Br); Mounting Technology: Surface Mount; Code_JEDEC: MS-012; ComponentLink1Description: Manufacturer URL; ComponentLink1URL: http://www.ti.com/; ComponentLink2Description: Datasheet; ComponentLink2URL: http://www.ti.com/general/docs/lit/getliterature.tsp?genericPartNumber=TLC4545&fileType=pdf; ComponentLink3Description: Package Specification; ComponentLink3URL: http://www.ti.com/litv/pdf/msoi002j
footprint TI-D8_N (SOIC, 8-Leads, Body 4.9x3.9mm, Pitch 1.27mm, IPC Medium Density)
footprint TI-D8_L (SOIC, 8-Leads, Body 4.9x3.9mm, Pitch 1.27mm, IPC High Density)
footprint TI-D8_M (SOIC, 8-Leads, Body 4.9x3.9mm, Pitch 1.27mm, IPC Low Density)
pins: 1 ~{CS} (in) "Chip select. A high-to-low transition on C\S\ removes SDO from the high-impedance state within a maximum delay time. The C\S\ input can be connected to a DSP frame sync (FS) output when a dedicated TMS320 DSP serial port is (See Datasheet)", 2 REF (in) "External voltage reference input", 3 GND (power) "Ground return for the internal circuitry. Unless otherwise noted, all voltage measurements are with respect to GND.", 4 AIN(+) (in) "Positive analog input", 5 AIN(-) (in) "Inverted analog input", 6 VDD (power) "Positive supply voltage", 7 SCLK (in) "Serial clock. This terminal receives the serial SCLK from the host processor.", 8 SDO (hiz) "The 3-state serial data output for the A/D conversion result. SDO is kept in the high-impedance state when C\S\ is high and presents output data after the C\S\ falling edge until the LSB is presented. The output format is (See Datasheet)"

## TLC5510AINS
designator U?
8-Bit, 20 MSPS ADC Single Channel, Internal S&H, Low Power, -20 to 75 degC, 24-pin SOP (NS24), Green (RoHS & no Sb/Br); Manufacturer: Texas Instruments; PartNumber: TLC5510AINS; # Input Channels: 1; Analog Voltage AV/DD(Max)(V): 5.25; Analog Voltage AV/DD(Min)(V): 4.75; Architecture: Flash; Interface: Parallel CMOS; Resolution(Bits): 8; Sample Rate (max)(SPS): 20M; SFDR(dB): 45; SNR(dB): 46; SubFamily: High Speed ADC (>10MSPS); DatasheetVersion: SLAS095L; PackageVersion: 4040062/C, 03/2003; PackageReference: NS24; PackageDescription: 24-Pin Plastic Small-Outline Package, Body 15 x 5.3 mm, Pitch 1.27 mm; Supplier 1: Digi-Key; Supplier Part Number 1: TLC7135CNG4-ND; Supplier 2: Newark; Supplier Part Number 2: 41M5438; Supplier 3: Mouser; Supplier Part Number 3: 595-TLC7135CNG4; Digital Supply(Max)(V): 5.25; Digital Supply(Min)(V): 4.75; Eco-Plan: Green (RoHS & no Sb/Br); INL(Max)(+/-LSB): 1; Mounting Technology: Surface Mount; ComponentLink1Description: Manufacturer URL; ComponentLink1URL: http://www.ti.com/; ComponentLink2Description: Datasheet; ComponentLink2URL: http://www.ti.com/general/docs/lit/getliterature.tsp?genericPartNumber=TLC5510A&fileType=pdf; ComponentLink3Description: Package Specification; ComponentLink3URL: http://www.ti.com/litv/pdf/msop002a
footprint TI-NS24_N (SOP, 24-Leads, Body 15x5.3mm, Pitch 1.27mm, IPC Medium Density)
footprint TI-NS24_L (SOP, 24-Leads, Body 15x5.3mm, Pitch 1.27mm, IPC High Density)
footprint TI-NS24_M (SOP, 24-Leads, Body 15x5.3mm, Pitch 1.27mm, IPC Low Density)
pins: 1 ~{OE} (in) "Output enable. When O\E\ = low, data is enabled. When O\E\ = high, D1-D8 is in high-impedance state.", 2 DGND (power) "Digital ground", 3 D1(LSB) (hiz) "Digital data out. D1 = LSB", 4 D2 (hiz) "Digital data out.", 5 D3 (hiz) "Digital data out.", 6 D4 (hiz) "Digital data out.", 7 D5 (hiz) "Digital data out.", 8 D6 (hiz) "Digital data out.", 9 D7 (hiz) "Digital data out.", 10 D8(MSB) (hiz) "Digital data out. D8 = MSB", 11 VDDD (power) "Digital supply voltage", 12 CLK (in) "Clock input", 13 VDDD (power) "Digital supply voltage", 14 VDDA (power) "Analog supply voltage", 15 VDDA (power) "Analog supply voltage", 16 REFTS "Reference voltage in top. When using the TLC5510 internal voltage divider to generate a nominal 2-V reference, REFTS is shorted to REFT (see Figure 3). When using the TLC5510A, REFTS is connected to VDDA.", 17 REFT "Reference voltage in top", 18 VDDA (power) "Analog supply voltage", 19 ANALOG IN (in) "Analog input", 20 AGND (power) "Analog ground", 21 AGND (power) "Analog ground", 22 REFBS "Reference voltage in bottom. When using the TLC5510 internal voltage divider to generate a nominal 2-V reference, REFBS is shorted to REFB (see Figure 3). When using the TLC5510A, REFBS is connected to ground.", 23 REFB "Reference voltage in bottom", 24 DGND (power) "Digital ground"

## TLC5510AINSG4
designator U?
8-Bit, 20 MSPS ADC Single Channel, Internal S&H, Low Power, -20 to 75 degC, 24-pin SOP (NS24), Green (RoHS & no Sb/Br); Manufacturer: Texas Instruments; PartNumber: TLC5510AINSG4; # Input Channels: 1; Analog Voltage AV/DD(Max)(V): 5.25; Analog Voltage AV/DD(Min)(V): 4.75; Architecture: Flash; Interface: Parallel CMOS; Resolution(Bits): 8; Sample Rate (max)(SPS): 20M; SFDR(dB): 45; SNR(dB): 46; SubFamily: High Speed ADC (>10MSPS); DatasheetVersion: SLAS095L; PackageVersion: 4040062/C, 03/2003; PackageReference: NS24; PackageDescription: 24-Pin Plastic Small-Outline Package, Body 15 x 5.3 mm, Pitch 1.27 mm; Supplier 1: Digi-Key; Supplier Part Number 1: 296-25254-2-ND; Supplier 2: Digi-Key; Supplier Part Number 2: 296-25254-1-ND; Supplier 3: Digi-Key; Supplier Part Number 3: 296-25254-6-ND; Supplier 4: Newark; Supplier Part Number 4: 55R2406; Supplier 5: Mouser; Supplier Part Number 5: 595-ADS1000A0QDBVRQ1; Digital Supply(Max)(V): 5.25; Digital Supply(Min)(V): 4.75; Eco-Plan: Green (RoHS & no Sb/Br); INL(Max)(+/-LSB): 1; Mounting Technology: Surface Mount; ComponentLink1Description: Manufacturer URL; ComponentLink1URL: http://www.ti.com/; ComponentLink2Description: Datasheet; ComponentLink2URL: http://www.ti.com/general/docs/lit/getliterature.tsp?genericPartNumber=TLC5510A&fileType=pdf; ComponentLink3Description: Package Specification; ComponentLink3URL: http://www.ti.com/litv/pdf/msop002a
footprint TI-NS24_N (SOP, 24-Leads, Body 15x5.3mm, Pitch 1.27mm, IPC Medium Density)
footprint TI-NS24_L (SOP, 24-Leads, Body 15x5.3mm, Pitch 1.27mm, IPC High Density)
footprint TI-NS24_M (SOP, 24-Leads, Body 15x5.3mm, Pitch 1.27mm, IPC Low Density)
pins: 1 ~{OE} (in) "Output enable. When O\E\ = low, data is enabled. When O\E\ = high, D1-D8 is in high-impedance state.", 2 DGND (power) "Digital ground", 3 D1(LSB) (hiz) "Digital data out. D1 = LSB", 4 D2 (hiz) "Digital data out.", 5 D3 (hiz) "Digital data out.", 6 D4 (hiz) "Digital data out.", 7 D5 (hiz) "Digital data out.", 8 D6 (hiz) "Digital data out.", 9 D7 (hiz) "Digital data out.", 10 D8(MSB) (hiz) "Digital data out. D8 = MSB", 11 VDDD (power) "Digital supply voltage", 12 CLK (in) "Clock input", 13 VDDD (power) "Digital supply voltage", 14 VDDA (power) "Analog supply voltage", 15 VDDA (power) "Analog supply voltage", 16 REFTS "Reference voltage in top. When using the TLC5510 internal voltage divider to generate a nominal 2-V reference, REFTS is shorted to REFT (see Figure 3). When using the TLC5510A, REFTS is connected to VDDA.", 17 REFT "Reference voltage in top", 18 VDDA (power) "Analog supply voltage", 19 ANALOG IN (in) "Analog input", 20 AGND (power) "Analog ground", 21 AGND (power) "Analog ground", 22 REFBS "Reference voltage in bottom. When using the TLC5510 internal voltage divider to generate a nominal 2-V reference, REFBS is shorted to REFB (see Figure 3). When using the TLC5510A, REFBS is connected to ground.", 23 REFB "Reference voltage in bottom", 24 DGND (power) "Digital ground"

## TLC5510AINSR
designator U?
8-Bit, 20 MSPS ADC Single Channel, Internal S&H, Low Power, -20 to 75 degC, 24-pin SOP (NS24), Green (RoHS & no Sb/Br); Manufacturer: Texas Instruments; PartNumber: TLC5510AINSR; # Input Channels: 1; Analog Voltage AV/DD(Max)(V): 5.25; Analog Voltage AV/DD(Min)(V): 4.75; Architecture: Flash; Interface: Parallel CMOS; Resolution(Bits): 8; Sample Rate (max)(SPS): 20M; SFDR(dB): 45; SNR(dB): 46; SubFamily: High Speed ADC (>10MSPS); DatasheetVersion: SLAS095L; PackageVersion: 4040062/C, 03/2003; PackageReference: NS24; PackageDescription: 24-Pin Plastic Small-Outline Package, Body 15 x 5.3 mm, Pitch 1.27 mm; Supplier 1: Digi-Key; Supplier Part Number 1: ADS1000A1QDBVRQ1-ND; Supplier 2: Mouser; Supplier Part Number 2: 595-ADS1000A1QDBVRQ1; Digital Supply(Max)(V): 5.25; Digital Supply(Min)(V): 4.75; Eco-Plan: Green (RoHS & no Sb/Br); INL(Max)(+/-LSB): 1; Mounting Technology: Surface Mount; ComponentLink1Description: Manufacturer URL; ComponentLink1URL: http://www.ti.com/; ComponentLink2Description: Datasheet; ComponentLink2URL: http://www.ti.com/general/docs/lit/getliterature.tsp?genericPartNumber=TLC5510A&fileType=pdf; ComponentLink3Description: Package Specification; ComponentLink3URL: http://www.ti.com/litv/pdf/msop002a
footprint TI-NS24_N (SOP, 24-Leads, Body 15x5.3mm, Pitch 1.27mm, IPC Medium Density)
footprint TI-NS24_L (SOP, 24-Leads, Body 15x5.3mm, Pitch 1.27mm, IPC High Density)
footprint TI-NS24_M (SOP, 24-Leads, Body 15x5.3mm, Pitch 1.27mm, IPC Low Density)
pins: 1 ~{OE} (in) "Output enable. When O\E\ = low, data is enabled. When O\E\ = high, D1-D8 is in high-impedance state.", 2 DGND (power) "Digital ground", 3 D1(LSB) (hiz) "Digital data out. D1 = LSB", 4 D2 (hiz) "Digital data out.", 5 D3 (hiz) "Digital data out.", 6 D4 (hiz) "Digital data out.", 7 D5 (hiz) "Digital data out.", 8 D6 (hiz) "Digital data out.", 9 D7 (hiz) "Digital data out.", 10 D8(MSB) (hiz) "Digital data out. D8 = MSB", 11 VDDD (power) "Digital supply voltage", 12 CLK (in) "Clock input", 13 VDDD (power) "Digital supply voltage", 14 VDDA (power) "Analog supply voltage", 15 VDDA (power) "Analog supply voltage", 16 REFTS "Reference voltage in top. When using the TLC5510 internal voltage divider to generate a nominal 2-V reference, REFTS is shorted to REFT (see Figure 3). When using the TLC5510A, REFTS is connected to VDDA.", 17 REFT "Reference voltage in top", 18 VDDA (power) "Analog supply voltage", 19 ANALOG IN (in) "Analog input", 20 AGND (power) "Analog ground", 21 AGND (power) "Analog ground", 22 REFBS "Reference voltage in bottom. When using the TLC5510 internal voltage divider to generate a nominal 2-V reference, REFBS is shorted to REFB (see Figure 3). When using the TLC5510A, REFBS is connected to ground.", 23 REFB "Reference voltage in bottom", 24 DGND (power) "Digital ground"

## TLC5510AINSRG4
designator U?
8-Bit, 20 MSPS ADC Single Channel, Internal S&H, Low Power, -20 to 75 degC, 24-pin SOP (NS24), Green (RoHS & no Sb/Br); Manufacturer: Texas Instruments; PartNumber: TLC5510AINSRG4; # Input Channels: 1; Analog Voltage AV/DD(Max)(V): 5.25; Analog Voltage AV/DD(Min)(V): 4.75; Architecture: Flash; Interface: Parallel CMOS; Resolution(Bits): 8; Sample Rate (max)(SPS): 20M; SFDR(dB): 45; SNR(dB): 46; SubFamily: High Speed ADC (>10MSPS); DatasheetVersion: SLAS095L; PackageVersion: 4040062/C, 03/2003; PackageReference: NS24; PackageDescription: 24-Pin Plastic Small-Outline Package, Body 15 x 5.3 mm, Pitch 1.27 mm; Supplier 1: Digi-Key; Supplier Part Number 1: 296-24612-5-ND; Supplier 2: Newark; Supplier Part Number 2: 24R8979; Supplier 3: Mouser; Supplier Part Number 3: 595-ADS1130IPW; Digital Supply(Max)(V): 5.25; Digital Supply(Min)(V): 4.75; Eco-Plan: Green (RoHS & no Sb/Br); INL(Max)(+/-LSB): 1; Mounting Technology: Surface Mount; ComponentLink1Description: Manufacturer URL; ComponentLink1URL: http://www.ti.com/; ComponentLink2Description: Datasheet; ComponentLink2URL: http://www.ti.com/general/docs/lit/getliterature.tsp?genericPartNumber=TLC5510A&fileType=pdf; ComponentLink3Description: Package Specification; ComponentLink3URL: http://www.ti.com/litv/pdf/msop002a
footprint TI-NS24_N (SOP, 24-Leads, Body 15x5.3mm, Pitch 1.27mm, IPC Medium Density)
footprint TI-NS24_L (SOP, 24-Leads, Body 15x5.3mm, Pitch 1.27mm, IPC High Density)
footprint TI-NS24_M (SOP, 24-Leads, Body 15x5.3mm, Pitch 1.27mm, IPC Low Density)
pins: 1 ~{OE} (in) "Output enable. When O\E\ = low, data is enabled. When O\E\ = high, D1-D8 is in high-impedance state.", 2 DGND (power) "Digital ground", 3 D1(LSB) (hiz) "Digital data out. D1 = LSB", 4 D2 (hiz) "Digital data out.", 5 D3 (hiz) "Digital data out.", 6 D4 (hiz) "Digital data out.", 7 D5 (hiz) "Digital data out.", 8 D6 (hiz) "Digital data out.", 9 D7 (hiz) "Digital data out.", 10 D8(MSB) (hiz) "Digital data out. D8 = MSB", 11 VDDD (power) "Digital supply voltage", 12 CLK (in) "Clock input", 13 VDDD (power) "Digital supply voltage", 14 VDDA (power) "Analog supply voltage", 15 VDDA (power) "Analog supply voltage", 16 REFTS "Reference voltage in top. When using the TLC5510 internal voltage divider to generate a nominal 2-V reference, REFTS is shorted to REFT (see Figure 3). When using the TLC5510A, REFTS is connected to VDDA.", 17 REFT "Reference voltage in top", 18 VDDA (power) "Analog supply voltage", 19 ANALOG IN (in) "Analog input", 20 AGND (power) "Analog ground", 21 AGND (power) "Analog ground", 22 REFBS "Reference voltage in bottom. When using the TLC5510 internal voltage divider to generate a nominal 2-V reference, REFBS is shorted to REFB (see Figure 3). When using the TLC5510A, REFBS is connected to ground.", 23 REFB "Reference voltage in bottom", 24 DGND (power) "Digital ground"